# EAGLE library part VS8053 (library vlsi-web-e7)
Ogg Vorbis / FLAC / WAV Codec Chip
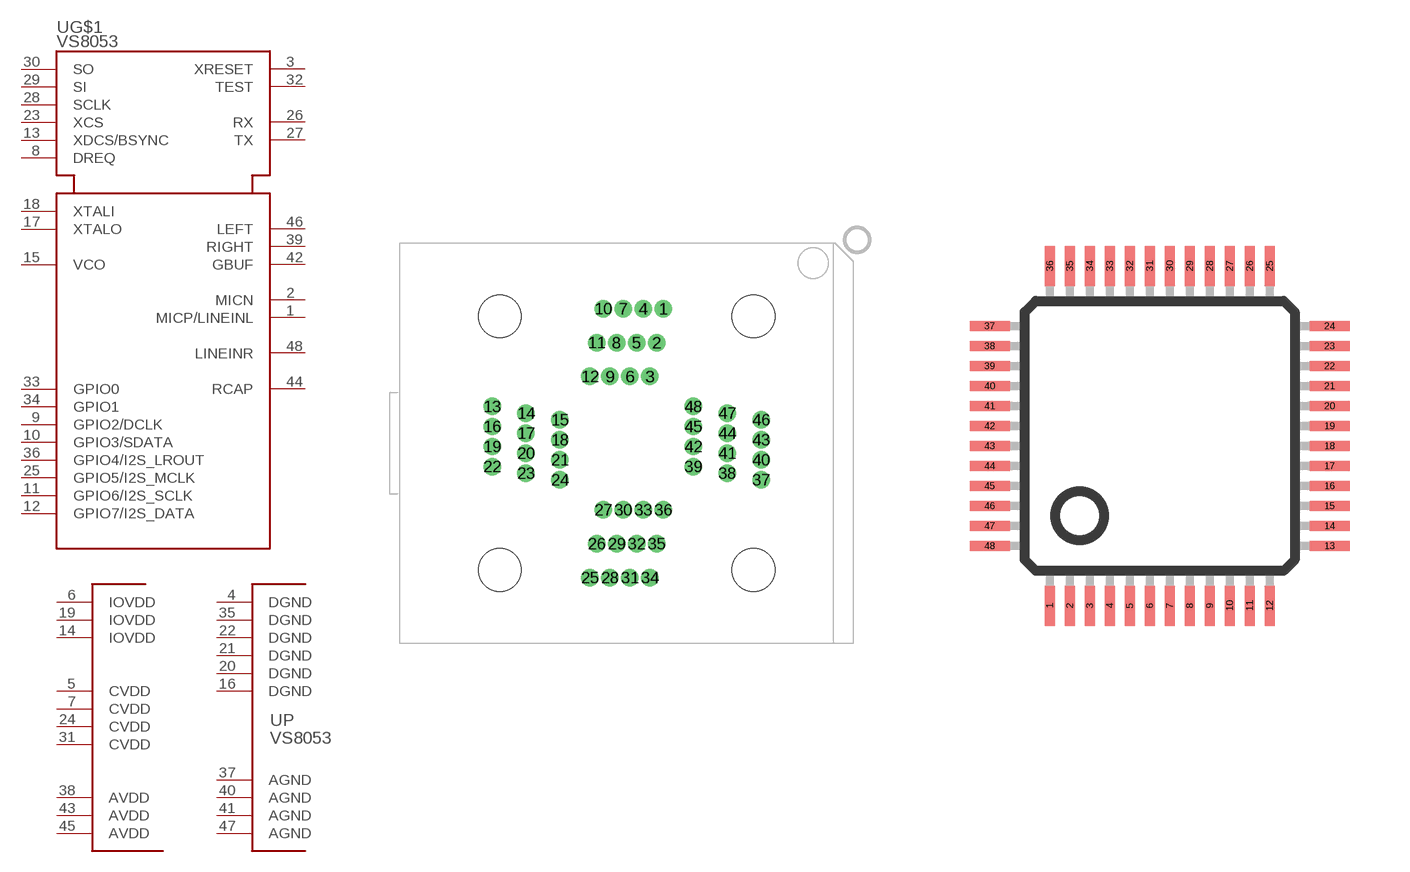
[diagram p8: symbol with the pads of QFP48SCK_OK; footprints QFP48SCK_OK, LQFP48]

Designator prefix U; gates G$1=VS1053 P=VS1033_PWR

## VS8053-SOCKET  [QFP48SCK_OK]
1  G$1:MICP/LINEINL  in
2  G$1:MICN  in
3  G$1:XRESET  in
4  P:DGND  pwr
5  P:CVDD  pwr
6  P:IOVDD  pwr
7  P:CVDD  pwr
8  G$1:DREQ  out
9  G$1:GPIO2/DCLK
10  G$1:GPIO3/SDATA
11  G$1:GPIO6/I2S_SCLK
12  G$1:GPIO7/I2S_DATA
13  G$1:XDCS/BSYNC  in
14  P:IOVDD  pwr
15  G$1:VCO  out
16  P:DGND  pwr
17  G$1:XTALO  out
18  G$1:XTALI  in
19  P:IOVDD  pwr
20  P:DGND  pwr
21  P:DGND  pwr
22  P:DGND  pwr
23  G$1:XCS  in
24  P:CVDD  pwr
25  G$1:GPIO5/I2S_MCLK
26  G$1:RX  in
27  G$1:TX  out
28  G$1:SCLK  in
29  G$1:SI  in
30  G$1:SO  out
31  P:CVDD  pwr
32  G$1:TEST  in
33  G$1:GPIO0
34  G$1:GPIO1
35  P:DGND  pwr
36  G$1:GPIO4/I2S_LROUT
37  P:AGND  pwr
38  P:AVDD  pwr
39  G$1:RIGHT  out
40  P:AGND  pwr
41  P:AGND  pwr
42  G$1:GBUF  out
43  P:AVDD  pwr
44  G$1:RCAP
45  P:AVDD  pwr
46  G$1:LEFT  out
47  P:AGND  pwr
48  G$1:LINEINR  in

## VS8053-L  [LQFP48]
1  G$1:MICP/LINEINL  in
2  G$1:MICN  in
3  G$1:XRESET  in
4  P:DGND  pwr
5  P:CVDD  pwr
6  P:IOVDD  pwr
7  P:CVDD  pwr
8  G$1:DREQ  out
9  G$1:GPIO2/DCLK
10  G$1:GPIO3/SDATA
11  G$1:GPIO6/I2S_SCLK
12  G$1:GPIO7/I2S_DATA
13  G$1:XDCS/BSYNC  in
14  P:IOVDD  pwr
15  G$1:VCO  out
16  P:DGND  pwr
17  G$1:XTALO  out
18  G$1:XTALI  in
19  P:IOVDD  pwr
20  P:DGND  pwr
21  P:DGND  pwr
22  P:DGND  pwr
23  G$1:XCS  in
24  P:CVDD  pwr
25  G$1:GPIO5/I2S_MCLK
26  G$1:RX  in
27  G$1:TX  out
28  G$1:SCLK  in
29  G$1:SI  in
30  G$1:SO  out
31  P:CVDD  pwr
32  G$1:TEST  in
33  G$1:GPIO0
34  G$1:GPIO1
35  P:DGND  pwr
36  G$1:GPIO4/I2S_LROUT
37  P:AGND  pwr
38  P:AVDD  pwr
39  G$1:RIGHT  out
40  P:AGND  pwr
41  P:AGND  pwr
42  G$1:GBUF  out
43  P:AVDD  pwr
44  G$1:RCAP
45  P:AVDD  pwr
46  G$1:LEFT  out
47  P:AGND  pwr
48  G$1:LINEINR  in

## Footprint QFP48SCK_OK (pad centres in mm)
Socket for QFP-48
drill 0.8: 1 2.75,10.08; 2 2.25,7.54; 3 1.75,5; 4 1.25,10.08; 5 0.75,7.54; 6 0.25,5; 7 -0.25,10.08; 8 -0.75,7.54; 9 -1.25,5; 10 -1.75,10.08; 11 -2.25,7.54; 12 -2.75,5; 13 -10.08,2.75; 14 -7.54,2.25; 15 -5,1.75; 16 -10.08,1.25; 17 -7.54,0.75; 18 -5,0.25; 19 -10.08,-0.25; 20 -7.54,-0.75; 21 -5,-1.25; 22 -10.08,-1.75; 23 -7.54,-2.25; 24 -5,-2.75; 25 -2.75,-10.08; 26 -2.25,-7.54; 27 -1.75,-5; 28 -1.25,-10.08; 29 -0.75,-7.54; 30 -0.25,-5; 31 0.25,-10.08; 32 0.75,-7.54; 33 1.25,-5; 34 1.75,-10.08; 35 2.25,-7.54; 36 2.75,-5; 37 10.08,-2.75; 38 7.54,-2.25; 39 5,-1.75; 40 10.08,-1.25; 41 7.54,-0.75; 42 5,-0.25; 43 10.08,0.25; 44 7.54,0.75; 45 5,1.25; 46 10.08,1.75; 47 7.54,2.25; 48 5,2.75
hole 3.2 at 9.5,9.5
hole 3.2 at 9.5,-9.5
hole 3.2 at -9.5,-9.5
hole 3.2 at -9.5,9.5

## Footprint LQFP48 (pad centres in mm)
48-pin plastic QFP (LQFP,MQFP,PQFP)
smd 0.25 x 1: 1 -2.75,-4.25; 2 -2.25,-4.25; 3 -1.75,-4.25; 4 -1.25,-4.25; 5 -0.75,-4.25; 6 -0.25,-4.25; 7 0.25,-4.25; 8 0.75,-4.25; 9 1.25,-4.25; 10 1.75,-4.25; 11 2.25,-4.25; 12 2.75,-4.25; 25 2.75,4.25; 26 2.25,4.25; 27 1.75,4.25; 28 1.25,4.25; 29 0.75,4.25; 30 0.25,4.25; 31 -0.25,4.25; 32 -0.75,4.25; 33 -1.25,4.25; 34 -1.75,4.25; 35 -2.25,4.25; 36 -2.75,4.25
smd 1 x 0.25: 13 4.25,-2.75; 14 4.25,-2.25; 15 4.25,-1.75; 16 4.25,-1.25; 17 4.25,-0.75; 18 4.25,-0.25; 19 4.25,0.25; 20 4.25,0.75; 21 4.25,1.25; 22 4.25,1.75; 23 4.25,2.25; 24 4.25,2.75; 37 -4.25,2.75; 38 -4.25,2.25; 39 -4.25,1.75; 40 -4.25,1.25; 41 -4.25,0.75; 42 -4.25,0.25; 43 -4.25,-0.25; 44 -4.25,-0.75; 45 -4.25,-1.25; 46 -4.25,-1.75; 47 -4.25,-2.25; 48 -4.25,-2.75